# Altium footprint library TES2N-2411.PcbLib: 1 footprints
Each footprint in its own frame and in the unit in brackets; x right, y up, seen from the top. Pads: shape width x height; smd on the part's side, far side on the other; paste and mask are expansions set on the pad; w line width, h text height; cw(c..) or ccw(c..) is an arc to the next point about the centre after c.
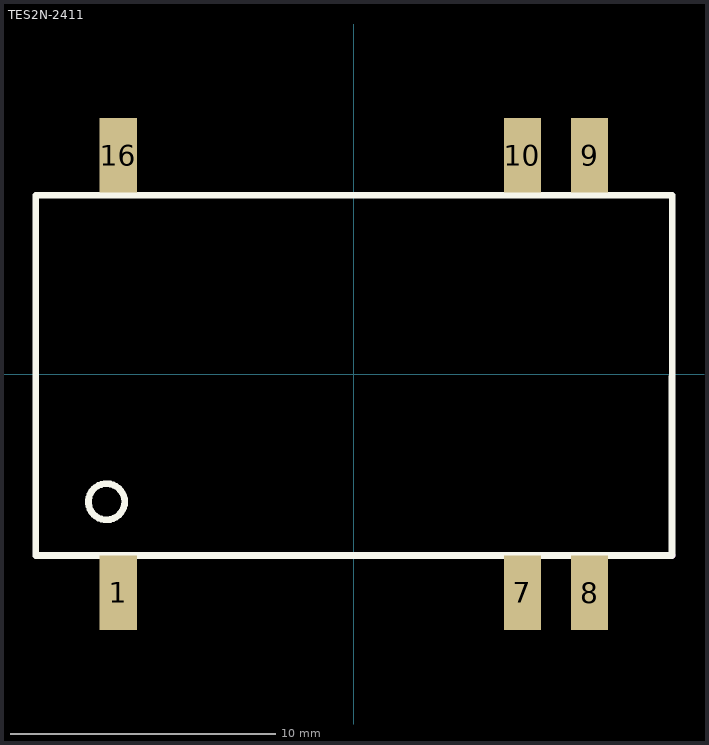
[diagram p0: the footprint, top view; thin cyan lines are the x and y axes]

## TES2N-2411 [mm]
pads (6):
  rect 1.4x2.8 smd: 1(-8.89,-8.25) 7(6.35,-8.25) 8(8.89,-8.25) 9(8.89,8.25) 10(6.35,8.25) 16(-8.89,8.25)
Top Overlay:
  circle w0.254: c-9.333,-4.818 r0.684
  lines w0.254: -12,-6.85 12,-6.85 12.003,6.739 -12,6.739 -12,-6.85
Mechanical 1:
  lines w0.254: 12,-6.85 12.003,-6.85